# Altium footprint library Filter1.PcbLib: 1 footprints
Each footprint in its own frame and in the unit in brackets; x right, y up, seen from the top. Pads: shape width x height; smd on the part's side, far side on the other; paste and mask are expansions set on the pad; w line width, h text height; cw(c..) or ccw(c..) is an arc to the next point about the centre after c.
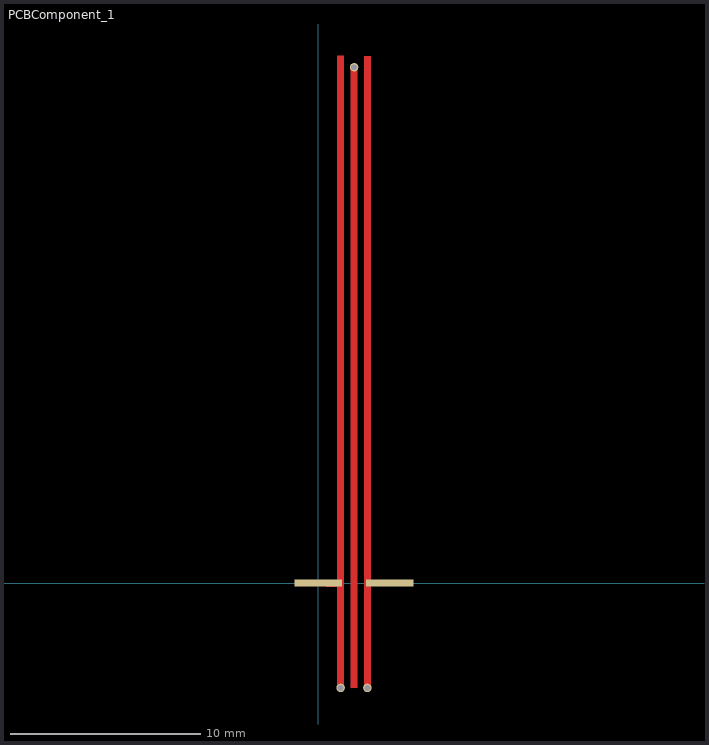
[diagram p0: the footprint, top view; thin cyan lines are the x and y axes]

## PCBComponent_1 [mm]
pads (5):
  rect 2.5x0.367 smd: 1(3.75,0) 2(0.01,0)
  round 0.45 hole 0.305: G1(1.175,-5.5) G2(1.885,27.099) G3(2.585,-5.5)
Top Layer:
  rectangle: 0.42,-0.18 1.345,-0.168
  region: 1,0 1.35,0 1.35,-5.5 1,-5.5
  region: 1,0 1.35,0 1.35,27.7 1,27.7
  region: 1.71,-5.5 1.71,27.099 2.06,27.099 2.06,-5.5
  region: 2.41,0 2.76,0 2.76,-5.5 2.41,-5.5
  region: 2.41,0 2.76,0 2.76,27.69 2.41,27.69